# Altium integrated library Infineon - AURIX.IntLib: 81 symbols (part 8 of 8)
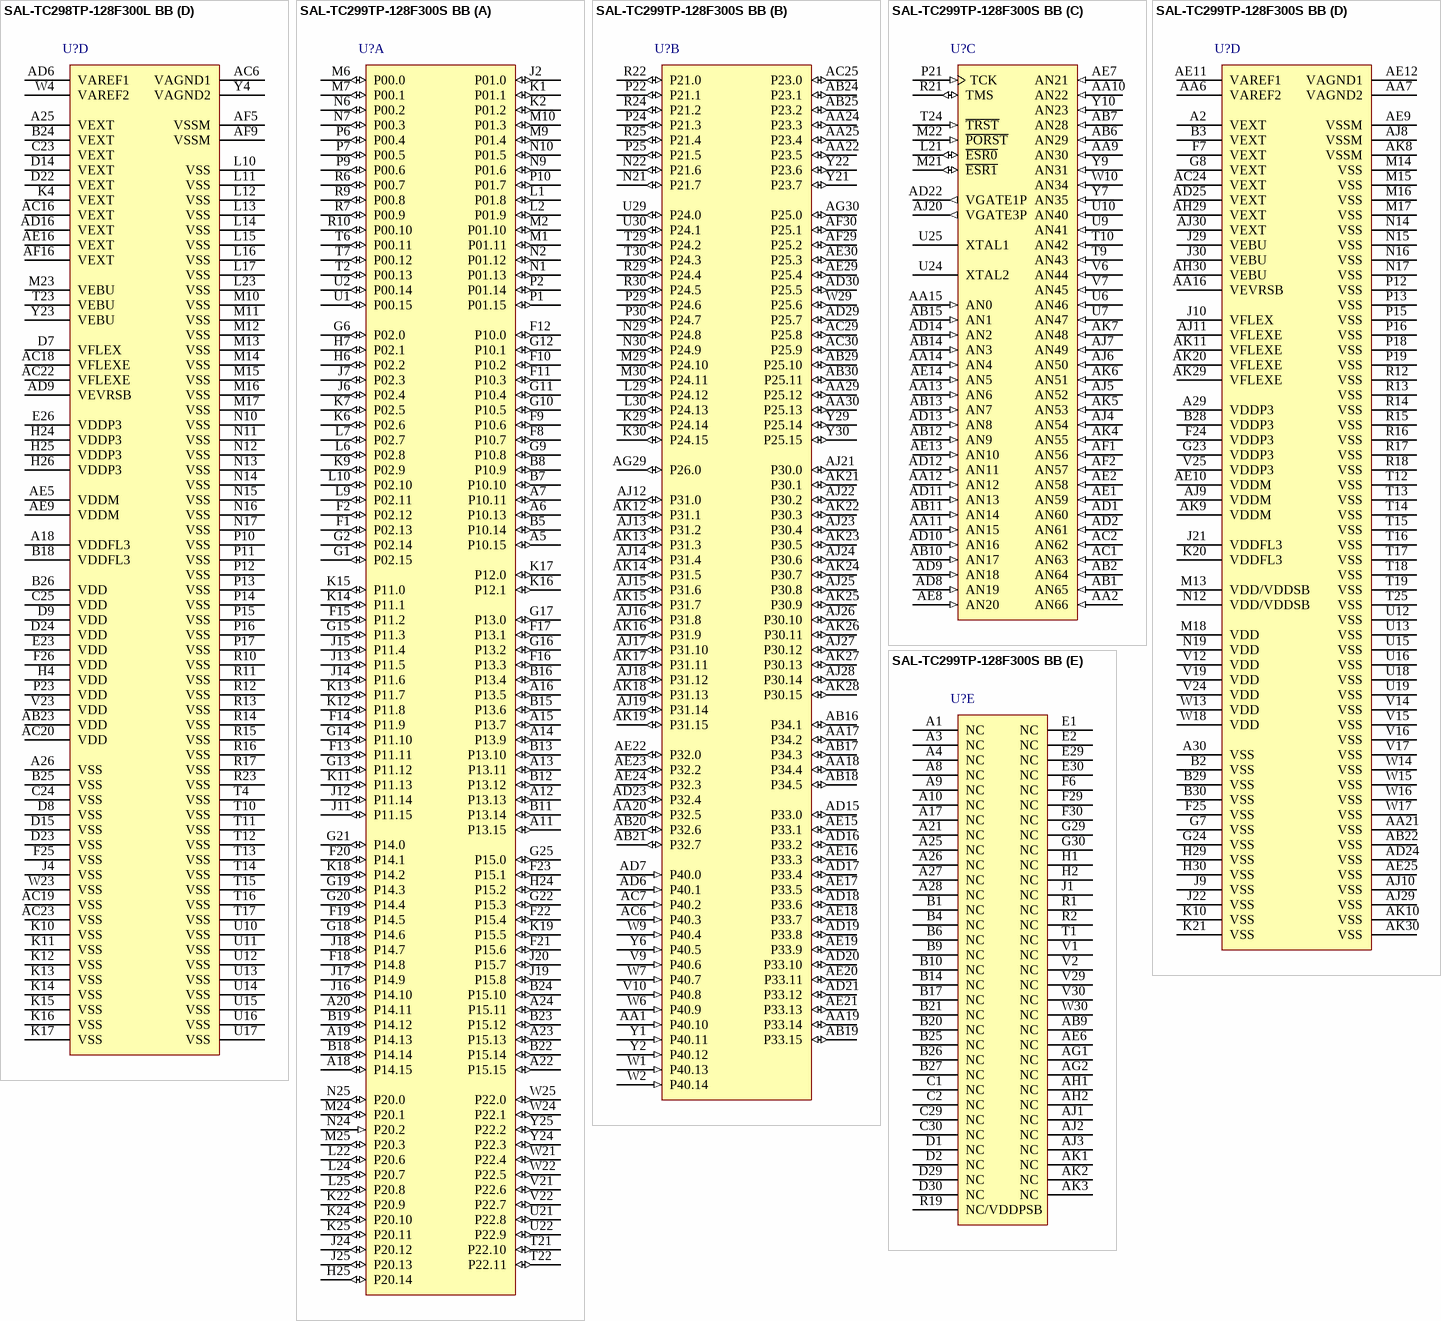
[diagram p42: symbols SAL-TC298TP-128F300L BB to SAL-TC299TP-128F300S BB]

## SAL-TC298TP-128F300L BB
designator U?
AURIX MCU with 728 KB SRAM, 8 MB Flash, 300 MHz Frequency, -40 to 135 degC, PG-BGA-416; ADC Chan.: 60; CAN FD: Yes; Core 0 TC16E DSPR (KB): 120; Core 0 TC16E PSPR (KB): 32; Core 1&2 TC16P DSPR (KB): 240; EEPROM (KB): 128@500k; Flash (MB): 8; FlexRay (#/ch.): 2 / 4; Freq. (MHz): 300; Total SRAM (KB): 728; DatasheetVersion: Rev. 0.6; PackageReference: PG-BGA-416-26; PackageDescription: 416-Pin Plastic (Green) Ball Grid Array Package, 27 x 27 mm Body, 1 mm Pitch; Core 1&2 TC16P PSPR (KB): 32; ETH: Yes; HSM: Yes; LMU (KB): 32; Mounting Technology: Surface Mount; ComponentLink1Description: Manufacturer URL; ComponentLink1URL: http://www.infineon.com/
footprint INF-PG-BGA-416-26 (BGA, 416-Balls, Body 27x27mm, Pitch 1mm)
part A pins: A2 P10.15 (io), A3 P10.11 (io), A4 P10.8 (io), A5 P11.3 (io), A6 P10.5 (io), A7 P10.2 (io), A8 P10.4 (io), A9 P10.0 (io), A10 P11.7 (io), A11 P12.0 (io), A12 P13.14 (io), A13 P13.10 (io), A14 P14.8 (io), A15 P14.12 (io), A16 P13.6 (io), A17 P13.5 (io), A19 P14.11 (io), A20 P15.7 (io), A21 P15.4 (io), A24 P20.0 (io), B1 P02.1 (io), B2 P02.0 (io), B3 P10.13 (io), B4 P10.7 (io), B5 P11.9 (io), B6 P10.9 (io), B7 P10.3 (io), B8 P10.1 (io), B9 P11.13 (io), B10 P11.5 (io), B11 P12.1 (io), B12 P13.12 (io), B13 P13.11 (io), B14 P14.15 (io), B15 P14.14 (io), B16 P13.7 (io), B17 P13.4 (io), B19 P14.13 (io), B20 P15.6 (io), B21 P15.2 (io), B23 P20.2 (in), C1 P02.4 (io), C2 P02.11 (io), C3 P10.14 (io), C4 P10.10 (io), C5 P11.12 (io), C6 P11.6 (io), C7 P11.15 (io), C8 P11.14 (io), C9 P11.8 (io), C10 P11.4 (io), C11 P11.1 (io), C12 P13.9 (io), C13 P14.6 (io), C14 P14.3 (io), C15 P14.10 (io), C16 P13.3 (io), C17 P13.0 (io), C18 P13.1 (io), C19 P14.9 (io), C20 P14.5 (io), C21 P14.0 (io), C22 P15.1 (io), D1 P02.13 (io), D2 P02.15 (io), D3 P02.12 (io), D4 P02.5 (io), D5 P11.10 (io), D6 P11.11 (io), D10 P11.2 (io), D11 P11.0 (io), D12 P14.7 (io), D13 P14.4 (io), D16 P15.8 (io), D17 P13.2 (io), D18 P15.3 (io), D19 P15.5 (io), D20 P14.2 (io), D21 P14.1 (io), E1 P02.14 (io), E2 P02.2 (io), E3 P01.7 (io), E4 P02.9 (io), F1 P01.0 (io), F2 P02.3 (io), F3 P01.6 (io), F4 P02.10 (io), G1 P01.2 (io), G2 P10.6 (io), G3 P01.4 (io), G4 P01.5 (io), H1 P02.7 (io), H2 P02.6 (io), H3 P01.3 (io), J1 P01.9 (io), J2 P01.1 (io), J3 P02.8 (io), J24 P22.1 (io), J25 P22.2 (io), J26 P22.3 (io), K1 P01.11 (io), K2 P01.10 (io), K3 P01.8 (io), K23 P22.0 (io), L1 P01.15 (io), L2 P01.14 (io), L3 P01.13 (io), L4 P01.12 (io), M1 P00.3 (io), M2 P00.2 (io), M3 P00.1 (io), M4 P00.0 (io), N1 P00.10 (io), N2 P00.9 (io), N3 P00.5 (io), N4 P00.4 (io), P1 P00.12 (io), P2 P00.11 (io), P3 P00.13 (io), P4 P00.15 (io), R2 P00.14 (io), R3 P00.6 (io), T2 P00.8 (io), T3 P00.7 (io)
part B pins: AA2 P40.2 (in), AA23 P25.2 (io), AA24 P25.1 (io), AA25 P26.0 (io), AA26 P25.0 (io), AB2 P40.3 (in), AB24 P30.2 (io), AB25 P30.7 (io), AB26 P30.12 (io), AC7 P40.0 (in), AC9 P34.1 (io), AC10 P34.2 (io), AC11 P33.0 (io), AC12 P33.4 (io), AC13 P33.14 (io), AC14 P32.4 (io), AC15 P33.7 (io), AC24 P30.3 (io), AC25 P30.8 (io), AC26 P30.13 (io), AD7 P40.1 (in), AD10 P34.4 (io), AD11 P33.1 (io), AD12 P33.5 (io), AD13 P33.15 (io), AD14 P32.5 (io), AD15 P33.8 (io), AD17 P32.0 (io), AD18 P31.0 (io), AD19 P31.3 (io), AD20 P31.6 (io), AD21 P31.9 (io), AD22 P31.12 (io), AD23 P31.14 (io), AD24 P30.4 (io), AD25 P30.9 (io), AD26 P30.14 (io), AE10 P34.5 (io), AE11 P33.2 (io), AE12 P33.6 (io), AE13 P32.2 (io), AE14 P33.10 (io), AE15 P33.13 (io), AE17 P32.6 (io), AE18 P31.1 (io), AE19 P31.4 (io), AE20 P31.7 (io), AE21 P31.10 (io), AE22 P31.13 (io), AE23 P31.15 (io), AE24 P30.5 (io), AE25 P30.10 (io), AE26 P30.15 (io), AF10 P34.3 (io), AF11 P33.3 (io), AF12 P33.9 (io), AF13 P32.3 (io), AF14 P33.11 (io), AF15 P33.12 (io), AF17 P32.7 (io), AF18 P31.2 (io), AF19 P31.5 (io), AF20 P31.8 (io), AF21 P31.11 (io), AF22 P30.0 (io), AF23 P30.1 (io), AF24 P30.6 (io), AF25 P30.11 (io), C26 P21.5 (io), D25 P21.7 (io), D26 P21.4 (io), E25 P21.6 (io), G23 P21.3 (io), G24 P21.1 (io), H23 P21.2 (io), J23 P21.0 (io), K24 P23.4 (io), K25 P23.5 (io), K26 P23.6 (io), L24 P23.1 (io), L25 P23.2 (io), L26 P23.3 (io), M24 P24.14 (io), M25 P24.15 (io), M26 P23.0 (io), N23 P24.10 (io), N24 P24.11 (io), N25 P24.12 (io), N26 P24.13 (io), P24 P24.7 (io), P25 P24.8 (io), P26 P24.9 (io), R24 P24.4 (io), R25 P24.5 (io), R26 P24.6 (io), T24 P24.1 (io), T25 P24.2 (io), T26 P24.3 (io), U2 P40.13 (in), U23 P24.0 (io), U24 P25.13 (io), U25 P25.14 (io), U26 P25.15 (io), V1 P40.14 (in), V2 P40.11 (in), V3 P40.7 (in), V4 P40.6 (in), V24 P25.10 (io), V25 P25.11 (io), V26 P25.12 (io), W1 P40.12 (in), W3 P40.4 (in), W24 P25.7 (io), W25 P25.8 (io), W26 P25.9 (io), Y3 P40.5 (in), Y24 P25.3 (io), Y25 P25.4 (io), Y26 P25.5 (io)
part C pins: A1 NC, A22 ~{ESR1} (io), A23 ~{ESR0} (io), AA1 AN61 (in), AA3 AN5 (in), AA4 AN56 (in), AB1 AN28 (in), AB3 AN57 (in), AB4 AN7 (in), AC1 AN29 (in), AC2 AN4 (in), AC3 AN16 (in), AC4 AN8 (in), AC5 AN0 (in), AC8 AN20 (in), AC17 VGATE1P (out), AC21 VGATE3P (out), AD1 AN6 (in), AD2 AN48 (in), AD3 AN17 (in), AD4 AN9 (in), AD5 AN1 (in), AD8 AN21 (in), AE1 AN49 (in), AE2 AN18 (in), AE3 AN10 (in), AE4 AN2 (in), AE6 AN52 (in), AE7 AN54 (in), AE8 AN22 (in), AF1 NC, AF2 AN19 (in), AF3 AN11 (in), AF4 AN3 (in), AF6 AN53 (in), AF7 AN55 (in), AF8 AN23 (in), AF26 NC, B22 ~{PORST} (in), E24 TCK (in), F23 ~{TRST} (in), F24 TMS (io), G25 XTAL2, G26 XTAL1, R1 NC/VDDSB, R4 NC/VDDSB, T1 AN42 (in), U1 AN43 (in), U3 AN41 (in), U4 AN40 (in), W2 AN64 (in), Y1 AN65 (in), Y2 AN60 (in)
part D pins: A18 VDDFL3 (power), A25 VEXT (power), A26 VSS (power), AB23 VDD (power), AC6 VAGND1 (power), AC16 VEXT (power), AC18 VFLEXE (power), AC19 VSS (power), AC20 VDD (power), AC22 VFLEXE (power), AC23 VSS (power), AD6 VAREF1 (power), AD9 VEVRSB (power), AD16 VEXT (power), AE5 VDDM (power), AE9 VDDM (power), AE16 VEXT (power), AF5 VSSM (power), AF9 VSSM (power), AF16 VEXT (power), B18 VDDFL3 (power), B24 VEXT (power), B25 VSS (power), B26 VDD (power), C23 VEXT (power), C24 VSS (power), C25 VDD (power), D7 VFLEX (power), D8 VSS (power), D9 VDD (power), D14 VEXT (power), D15 VSS (power), D22 VEXT (power), D23 VSS (power), D24 VDD (power), E23 VDD (power), E26 VDDP3 (power), F25 VSS (power), F26 VDD (power), H4 VDD (power), H24 VDDP3 (power), H25 VDDP3 (power), H26 VDDP3 (power), J4 VSS (power), K4 VEXT (power), K10 VSS (power), K11 VSS (power), K12 VSS (power), K13 VSS (power), K14 VSS (power), K15 VSS (power), K16 VSS (power), K17 VSS (power), L10 VSS (power), L11 VSS (power), L12 VSS (power), L13 VSS (power), L14 VSS (power), L15 VSS (power), L16 VSS (power), L17 VSS (power), L23 VSS (power), M10 VSS (power), M11 VSS (power), M12 VSS (power), M13 VSS (power), M14 VSS (power), M15 VSS (power), M16 VSS (power), M17 VSS (power), M23 VEBU (power), N10 VSS (power), N11 VSS (power), N12 VSS (power), N13 VSS (power), N14 VSS (power), N15 VSS (power), N16 VSS (power), N17 VSS (power), P10 VSS (power), P11 VSS (power), P12 VSS (power), P13 VSS (power), P14 VSS (power), P15 VSS (power), P16 VSS (power), P17 VSS (power), P23 VDD (power), R10 VSS (power), R11 VSS (power), R12 VSS (power), R13 VSS (power), R14 VSS (power), R15 VSS (power), R16 VSS (power), R17 VSS (power), R23 VSS (power), T4 VSS (power), T10 VSS (power), T11 VSS (power), T12 VSS (power), T13 VSS (power), T14 VSS (power), T15 VSS (power), T16 VSS (power), T17 VSS (power), T23 VEBU (power), U10 VSS (power), U11 VSS (power), U12 VSS (power), U13 VSS (power), U14 VSS (power), U15 VSS (power), U16 VSS (power), U17 VSS (power), V23 VDD (power), W4 VAREF2 (power), W23 VSS (power), Y4 VAGND2 (power), Y23 VEBU (power)

## SAL-TC299TP-128F300S BB
designator U?
AURIX MCU with 728 KB SRAM, 8 MB Flash, 300 MHz Frequency, -40 to 150 degC, PG-LFBGA-516; ADC Chan.: 84; CAN FD: Yes; Core 0 TC16E DSPR (KB): 120; Core 0 TC16E PSPR (KB): 32; Core 1&2 TC16P DSPR (KB): 240; EEPROM (KB): 128@500k; Flash (MB): 8; FlexRay (#/ch.): 2 / 4; Freq. (MHz): 300; Total SRAM (KB): 728; DatasheetVersion: Rev. 0.6; PackageReference: PG-LFBGA-516-5; PackageDescription: 516-Pin Plastic (Green) Low Profile Fine Pitch Ball Grid Array Package, 25 x 25 mm Body, 0.8 mm Pitch; Core 1&2 TC16P PSPR (KB): 32; ETH: Yes; HSM: Yes; LMU (KB): 32; Mounting Technology: Surface Mount; ComponentLink1Description: Manufacturer URL; ComponentLink1URL: http://www.infineon.com/
footprint INF-PG-LFBGA-516-5 (BGA, 516-Balls, Body 25x25mm, Pitch 0.8mm)
part A pins: A5 P10.15 (io), A6 P10.13 (io), A7 P10.11 (io), A11 P13.15 (io), A12 P13.13 (io), A13 P13.11 (io), A14 P13.9 (io), A15 P13.7 (io), A16 P13.5 (io), A18 P14.15 (io), A19 P14.13 (io), A20 P14.11 (io), A22 P15.15 (io), A23 P15.13 (io), A24 P15.11 (io), B5 P10.14 (io), B7 P10.10 (io), B8 P10.9 (io), B11 P13.14 (io), B12 P13.12 (io), B13 P13.10 (io), B15 P13.6 (io), B16 P13.4 (io), B18 P14.14 (io), B19 P14.12 (io), B22 P15.14 (io), B23 P15.12 (io), B24 P15.10 (io), F1 P02.13 (io), F2 P02.12 (io), F8 P10.7 (io), F9 P10.6 (io), F10 P10.2 (io), F11 P10.3 (io), F12 P10.0 (io), F13 P11.11 (io), F14 P11.9 (io), F15 P11.2 (io), F16 P13.3 (io), F17 P13.1 (io), F18 P14.8 (io), F19 P14.5 (io), F20 P14.1 (io), F21 P15.6 (io), F22 P15.4 (io), F23 P15.1 (io), G1 P02.15 (io), G2 P02.14 (io), G6 P02.0 (io), G9 P10.8 (io), G10 P10.5 (io), G11 P10.4 (io), G12 P10.1 (io), G13 P11.12 (io), G14 P11.10 (io), G15 P11.3 (io), G16 P13.2 (io), G17 P13.0 (io), G18 P14.6 (io), G19 P14.3 (io), G20 P14.4 (io), G21 P14.0 (io), G22 P15.3 (io), G25 P15.0 (io), H6 P02.2 (io), H7 P02.1 (io), H24 P15.2 (io), H25 P20.14 (io), J2 P01.0 (io), J6 P02.4 (io), J7 P02.3 (io), J11 P11.15 (io), J12 P11.14 (io), J13 P11.5 (io), J14 P11.6 (io), J15 P11.4 (io), J16 P14.10 (io), J17 P14.9 (io), J18 P14.7 (io), J19 P15.8 (io), J20 P15.7 (io), J24 P20.12 (io), J25 P20.13 (io), K1 P01.1 (io), K2 P01.2 (io), K6 P02.6 (io), K7 P02.5 (io), K9 P02.9 (io), K11 P11.13 (io), K12 P11.8 (io), K13 P11.7 (io), K14 P11.1 (io), K15 P11.0 (io), K16 P12.1 (io), K17 P12.0 (io), K18 P14.2 (io), K19 P15.5 (io), K22 P20.9 (io), K24 P20.10 (io), K25 P20.11 (io), L1 P01.8 (io), L2 P01.9 (io), L6 P02.8 (io), L7 P02.7 (io), L9 P02.11 (io), L10 P02.10 (io), L22 P20.6 (io), L24 P20.7 (io), L25 P20.8 (io), M1 P01.11 (io), M2 P01.10 (io), M6 P00.0 (io), M7 P00.1 (io), M9 P01.4 (io), M10 P01.3 (io), M24 P20.1 (io), M25 P20.3 (io), N1 P01.13 (io), N2 P01.12 (io), N6 P00.2 (io), N7 P00.3 (io), N9 P01.6 (io), N10 P01.5 (io), N24 P20.2 (in), N25 P20.0 (io), P1 P01.15 (io), P2 P01.14 (io), P6 P00.4 (io), P7 P00.5 (io), P9 P00.6 (io), P10 P01.7 (io), R6 P00.7 (io), R7 P00.9 (io), R9 P00.8 (io), R10 P00.10 (io), T2 P00.13 (io), T6 P00.11 (io), T7 P00.12 (io), T21 P22.10 (io), T22 P22.11 (io), U1 P00.15 (io), U2 P00.14 (io), U21 P22.8 (io), U22 P22.9 (io), V21 P22.6 (io), V22 P22.7 (io), W21 P22.4 (io), W22 P22.5 (io), W24 P22.1 (io), W25 P22.0 (io), Y24 P22.3 (io), Y25 P22.2 (io)
part B pins: AA1 P40.10 (in), AA17 P34.2 (io), AA18 P34.4 (io), AA19 P33.14 (io), AA20 P32.5 (io), AA22 P23.5 (io), AA24 P23.3 (io), AA25 P23.4 (io), AA29 P25.12 (io), AA30 P25.13 (io), AB16 P34.1 (io), AB17 P34.3 (io), AB18 P34.5 (io), AB19 P33.15 (io), AB20 P32.6 (io), AB21 P32.7 (io), AB24 P23.1 (io), AB25 P23.2 (io), AB29 P25.10 (io), AB30 P25.11 (io), AC6 P40.3 (in), AC7 P40.2 (in), AC25 P23.0 (io), AC29 P25.8 (io), AC30 P25.9 (io), AD6 P40.1 (in), AD7 P40.0 (in), AD15 P33.0 (io), AD16 P33.2 (io), AD17 P33.4 (io), AD18 P33.6 (io), AD19 P33.8 (io), AD20 P33.10 (io), AD21 P33.12 (io), AD23 P32.4 (io), AD29 P25.7 (io), AD30 P25.5 (io), AE15 P33.1 (io), AE16 P33.3 (io), AE17 P33.5 (io), AE18 P33.7 (io), AE19 P33.9 (io), AE20 P33.11 (io), AE21 P33.13 (io), AE22 P32.0 (io), AE23 P32.2 (io), AE24 P32.3 (io), AE29 P25.4 (io), AE30 P25.3 (io), AF29 P25.2 (io), AF30 P25.1 (io), AG29 P26.0 (io), AG30 P25.0 (io), AJ12 P31.0 (io), AJ13 P31.2 (io), AJ14 P31.4 (io), AJ15 P31.6 (io), AJ16 P31.8 (io), AJ17 P31.10 (io), AJ18 P31.12 (io), AJ19 P31.14 (io), AJ21 P30.0 (io), AJ22 P30.2 (io), AJ23 P30.4 (io), AJ24 P30.6 (io), AJ25 P30.8 (io), AJ26 P30.10 (io), AJ27 P30.12 (io), AJ28 P30.14 (io), AK12 P31.1 (io), AK13 P31.3 (io), AK14 P31.5 (io), AK15 P31.7 (io), AK16 P31.9 (io), AK17 P31.11 (io), AK18 P31.13 (io), AK19 P31.15 (io), AK21 P30.1 (io), AK22 P30.3 (io), AK23 P30.5 (io), AK24 P30.7 (io), AK25 P30.9 (io), AK26 P30.11 (io), AK27 P30.13 (io), AK28 P30.15 (io), K29 P24.14 (io), K30 P24.15 (io), L29 P24.12 (io), L30 P24.13 (io), M29 P24.10 (io), M30 P24.11 (io), N21 P21.7 (io), N22 P21.6 (io), N29 P24.8 (io), N30 P24.9 (io), P22 P21.1 (io), P24 P21.3 (io), P25 P21.5 (io), P29 P24.6 (io), P30 P24.7 (io), R22 P21.0 (io), R24 P21.2 (io), R25 P21.4 (io), R29 P24.4 (io), R30 P24.5 (io), T29 P24.2 (io), T30 P24.3 (io), U29 P24.0 (io), U30 P24.1 (io), V9 P40.6 (in), V10 P40.8 (in), W1 P40.13 (in), W2 P40.14 (in), W6 P40.9 (in), W7 P40.7 (in), W9 P40.4 (in), W29 P25.6 (io), Y1 P40.11 (in), Y2 P40.12 (in), Y6 P40.5 (in), Y21 P23.7 (io), Y22 P23.6 (io), Y29 P25.14 (io), Y30 P25.15 (io)
part C pins: AA2 AN66 (in), AA9 AN30 (in), AA10 AN22 (in), AA11 AN15 (in), AA12 AN12 (in), AA13 AN6 (in), AA14 AN4 (in), AA15 AN0 (in), AB1 AN65 (in), AB2 AN64 (in), AB6 AN29 (in), AB7 AN28 (in), AB10 AN17 (in), AB11 AN14 (in), AB12 AN9 (in), AB13 AN7 (in), AB14 AN3 (in), AB15 AN1 (in), AC1 AN63 (in), AC2 AN62 (in), AD1 AN60 (in), AD2 AN61 (in), AD8 AN19 (in), AD9 AN18 (in), AD10 AN16 (in), AD11 AN13 (in), AD12 AN11 (in), AD13 AN8 (in), AD14 AN2 (in), AD22 VGATE1P (out), AE1 AN59 (in), AE2 AN58 (in), AE7 AN21 (in), AE8 AN20 (in), AE13 AN10 (in), AE14 AN5 (in), AF1 AN56 (in), AF2 AN57 (in), AJ4 AN54 (in), AJ5 AN52 (in), AJ6 AN50 (in), AJ7 AN49 (in), AJ20 VGATE3P (out), AK4 AN55 (in), AK5 AN53 (in), AK6 AN51 (in), AK7 AN48 (in), L21 ~{ESR0} (io), M21 ~{ESR1} (io), M22 ~{PORST} (in), P21 TCK (in), R21 TMS (io), T9 AN43 (in), T10 AN42 (in), T24 ~{TRST} (in), U6 AN46 (in), U7 AN47 (in), U9 AN41 (in), U10 AN40 (in), U24 XTAL2, U25 XTAL1, V6 AN44 (in), V7 AN45 (in), W10 AN34 (in), Y7 AN35 (in), Y9 AN31 (in), Y10 AN23 (in)
part D pins: A2 VEXT (power), A29 VDDP3 (power), A30 VSS (power), AA6 VAREF2 (power), AA7 VAGND2 (power), AA16 VEVRSB (power), AA21 VSS (power), AB22 VSS (power), AC24 VEXT (power), AD24 VSS (power), AD25 VEXT (power), AE9 VSSM (power), AE10 VDDM (power), AE11 VAREF1 (power), AE12 VAGND1 (power), AE25 VSS (power), AH29 VEXT (power), AH30 VEBU (power), AJ8 VSSM (power), AJ9 VDDM (power), AJ10 VSS (power), AJ11 VFLEXE (power), AJ29 VSS (power), AJ30 VEXT (power), AK8 VSSM (power), AK9 VDDM (power), AK10 VSS (power), AK11 VFLEXE (power), AK20 VFLEXE (power), AK29 VFLEXE (power), AK30 VSS (power), B2 VSS (power), B3 VEXT (power), B28 VDDP3 (power), B29 VSS (power), B30 VSS (power), F7 VEXT (power), F24 VDDP3 (power), F25 VSS (power), G7 VSS (power), G8 VEXT (power), G23 VDDP3 (power), G24 VSS (power), H29 VSS (power), H30 VSS (power), J9 VSS (power), J10 VFLEX (power), J21 VDDFL3 (power), J22 VSS (power), J29 VEBU (power), J30 VEBU (power), K10 VSS (power), K20 VDDFL3 (power), K21 VSS (power), M13 VDD/VDDSB (power), M14 VSS (power), M15 VSS (power), M16 VSS (power), M17 VSS (power), M18 VDD (power), N12 VDD/VDDSB (power), N14 VSS (power), N15 VSS (power), N16 VSS (power), N17 VSS (power), N19 VDD (power), P12 VSS (power), P13 VSS (power), P15 VSS (power), P16 VSS (power), P18 VSS (power), P19 VSS (power), R12 VSS (power), R13 VSS (power), R14 VSS (power), R15 VSS (power), R16 VSS (power), R17 VSS (power), R18 VSS (power), T12 VSS (power), T13 VSS (power), T14 VSS (power), T15 VSS (power), T16 VSS (power), T17 VSS (power), T18 VSS (power), T19 VSS (power), T25 VSS (power), U12 VSS (power), U13 VSS (power), U15 VSS (power), U16 VSS (power), U18 VSS (power), U19 VSS (power), V12 VDD (power), V14 VSS (power), V15 VSS (power), V16 VSS (power), V17 VSS (power), V19 VDD (power), V24 VDD (power), V25 VDDP3 (power), W13 VDD (power), W14 VSS (power), W15 VSS (power), W16 VSS (power), W17 VSS (power), W18 VDD (power)
part E pins: A1 NC, A3 NC, A4 NC, A8 NC, A9 NC, A10 NC, A17 NC, A21 NC, A25 NC, A26 NC, A27 NC, A28 NC, AB9 NC, AE6 NC, AG1 NC, AG2 NC, AH1 NC, AH2 NC, AJ1 NC, AJ2 NC, AJ3 NC, AK1 NC, AK2 NC, AK3 NC, B1 NC, B4 NC, B6 NC, B9 NC, B10 NC, B14 NC, B17 NC, B20 NC, B21 NC, B25 NC, B26 NC, B27 NC, C1 NC, C2 NC, C29 NC, C30 NC, D1 NC, D2 NC, D29 NC, D30 NC, E1 NC, E2 NC, E29 NC, E30 NC, F6 NC, F29 NC, F30 NC, G29 NC, G30 NC, H1 NC, H2 NC, J1 NC, R1 NC, R2 NC, R19 NC/VDDPSB, T1 NC, V1 NC, V2 NC, V29 NC, V30 NC, W30 NC